# EAGLE library part PS_POWER-ONE_HC5-6 (library 1A-meinLib)
Linear Power supply, C Case Size, HC5-6/OVP-A, 5V, 6A, Open frame
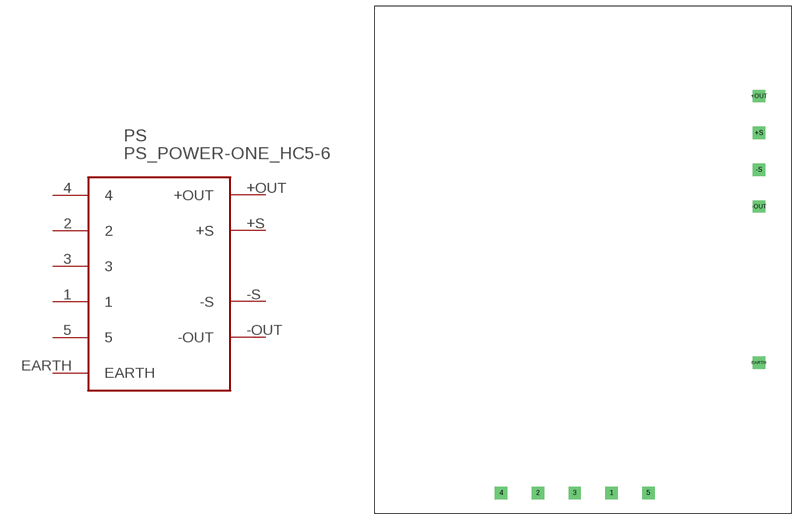
[diagram p106: symbol with the pads of PS_CONDOR-HB24-1.2A-A; footprint PS_CONDOR-HB24-1.2A-A]

Designator prefix PS

## PS_POWER-ONE_HC5-6  [PS_CONDOR-HB24-1.2A-A]
1  1
2  2
3  3
4  4
5  5
+OUT  +OUT
+S  +S
-OUT  -OUT
-S  -S
EARTH  EARTH

## Footprint PS_CONDOR-HB24-1.2A-A (pad centres in mm)
drill 2 square: 1 58,5; 2 40,5; 3 49,5; 4 31,5; 5 67,5; +OUT 94,102; +S 94,93; -OUT 94,75; -S 94,84; EARTH 93.98,36.83